# Altium schematic symbol library pporyzala-TI_Lighting.SchLib: 745 symbols (part 16 of 48)
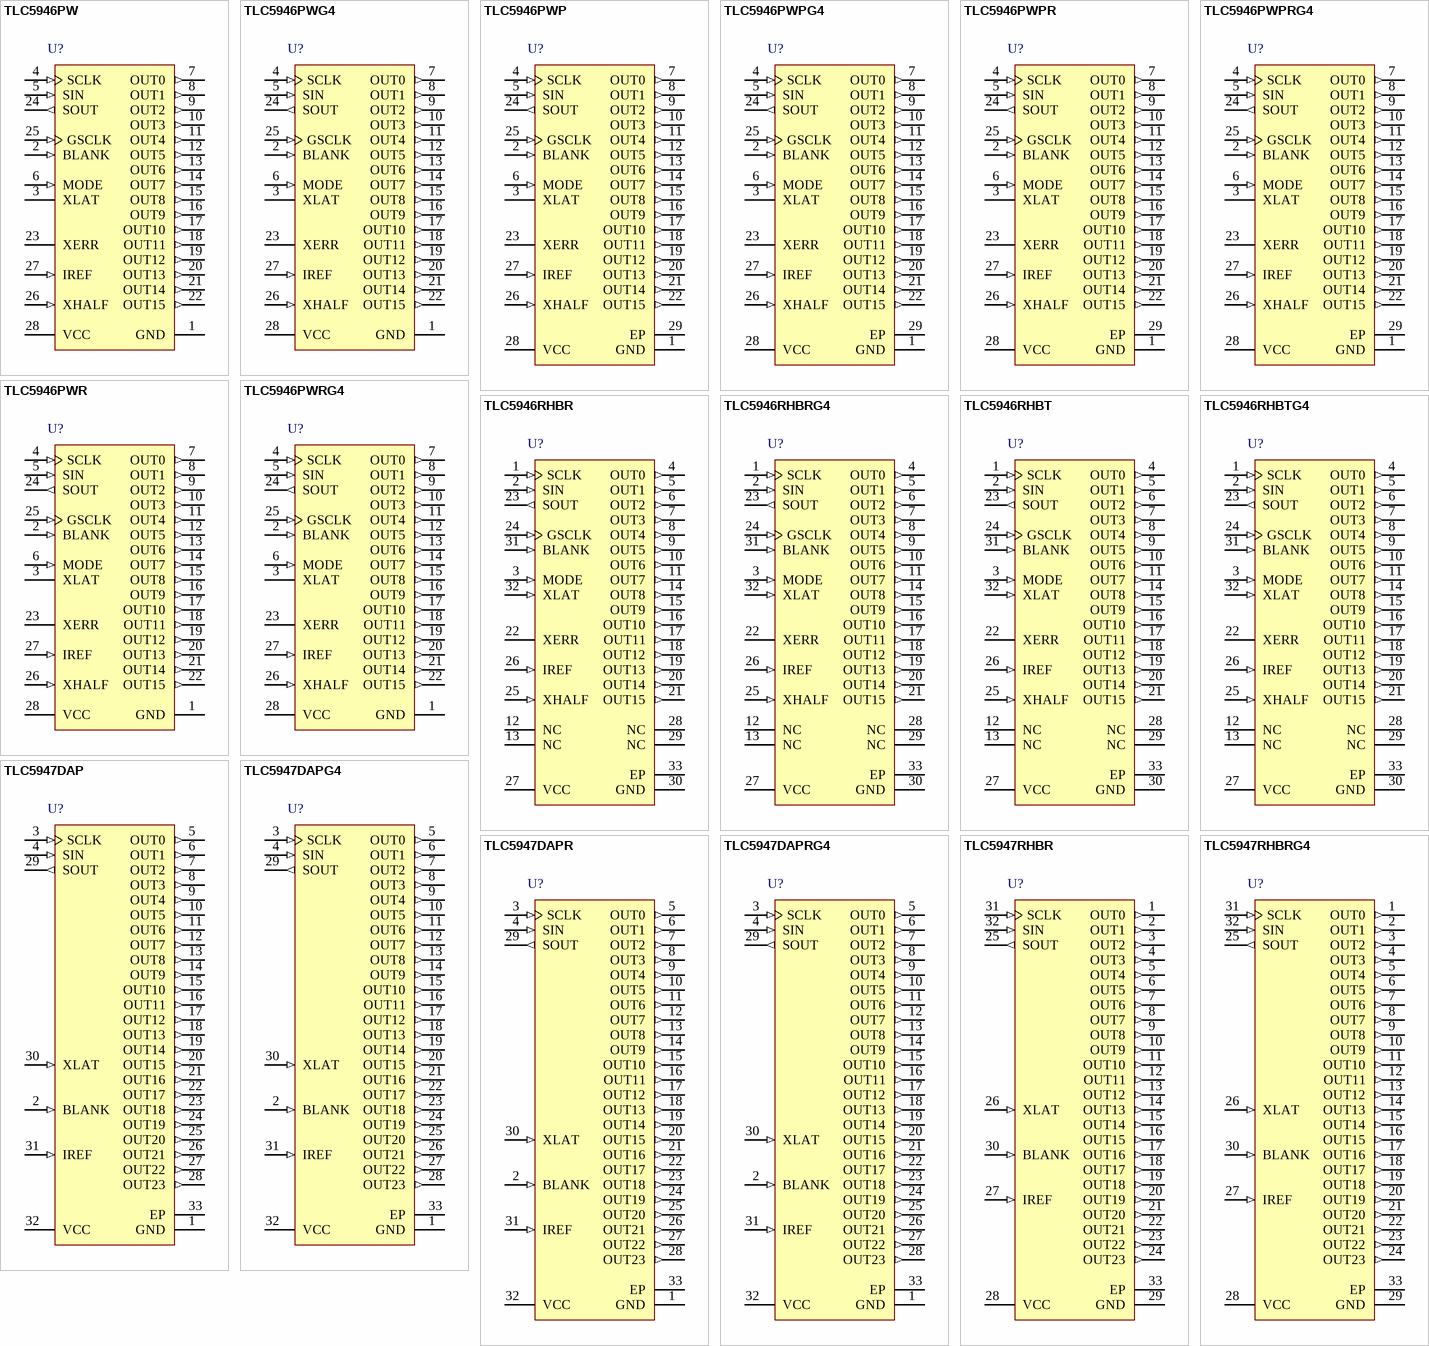
[diagram p46: symbols TLC5946PW to TLC5947RHBRG4]

## TLC5946RHBT
designator U?
16-Channel, 12-Bit PWM LED Driver with 6-Bit DOT Correction, 3 to 5.5 V, -40 to 85 degC, 32-pin QFN (RHB32), Green (RoHS & no Sb/Br); Manufacturer: Texas Instruments; PartNumber: TLC5946RHBT; Iout(Max)(A): 0.04; Rating: Catalog; Vin(Max)(V): 5.5; Vin(Min)(V): 3; DatasheetVersion: SLVS824B; PackageVersion: 4204326/D; PackageReference: RHB32-3450X3450TP; PackageDescription: 32-Pin Plastic Flat Pack, Body 5 x 5 mm, Pitch 0.5 mm; Supplier 1: Digi-Key; Supplier Part Number 1: TLC5946RHBT-ND; Supplier 2: Farnell; Supplier Part Number 2: 1647819; Supplier 3: Farnell; Supplier Part Number 3: 1647819RL; Supplier 4: Newark; Supplier Part Number 4: 14N8520; Supplier 5: Mouser; Supplier Part Number 5: 595-TLC5946RHBT; Eco-Plan: Green (RoHS & no Sb/Br); SubFamily: LED Driver; Mounting Technology: Surface Mount; Code_JEDEC: MO-220; ComponentLink1Description: Manufacturer URL; ComponentLink1URL: http://www.ti.com/; ComponentLink2Description: Datasheet; ComponentLink2URL: http://www.ti.com/general/docs/lit/getliterature.tsp?genericPartNumber=TLC5946&fileType=pdf; ComponentLink3Description: Package Specification; ComponentLink3URL: http://www.ti.com/lit/ml/mpqf130c/mpqf130c.pdf
footprint TI-RHB32-3450X3450TP_V (QFN, 32-Leads, Body 5x5mm, Pitch 0.5mm, Thermal Pad 3.45x3.45mm)
pins: 1 SCLK (in) "Serial data shift clock", 2 SIN (in) "Serial data input", 3 MODE (in) "Input mode pin. When MODE is high, the input mode is dot correction (DC). When MODE is low, the input mode is grayscale (GS).", 4 OUT0 (out) "Constant current output", 5 OUT1 (out) "Constant current output", 6 OUT2 (out) "Constant current output", 7 OUT3 (out) "Constant current output", 8 OUT4 (out) "Constant current output", 9 OUT5 (out) "Constant current output", 10 OUT6 (out) "Constant current output", 11 OUT7 (out) "Constant current output", 12 NC "No connection", 13 NC "No connection", 14 OUT8 (out) "Constant current output", 15 OUT9 (out) "Constant current output", 16 OUT10 (out) "Constant current output", 17 OUT11 (out) "Constant current output", 18 OUT12 (out) "Constant current output", 19 OUT13 (out) "Constant current output", 20 OUT14 (out) "Constant current output", 21 OUT15 (out) "Constant current output", 22 XERR (hiz) "Error output. Open-drain output. XERR goes low when LOD or TEF is detected.", 23 SOUT (out) "Serial data output", 24 GSCLK (in) "Reference clock for Grayscale PWM control.", 25 XHALF (in) "Extended serial interface. When XHALF is high, the device operates normally. When XHALF is low, the extended serial interface is activated.", 26 IREF (in) "This pin sets the constant current value. OUT0 through OUT15 sink constant current is set to desired value by connecting an external resistor between IREF and GND.", 27 VCC (power) "Power-supply voltage", 28 NC "No connection", 29 NC "No connection", 30 GND (power) "Ground", 31 BLANK (in) "Blank (all constant current outputs off). When BLANK is high, all constant current outputs (OUT0 through OUT15) are forced off, the Grayscale PWM timing controller initializes and the Grayscale counter resets to '0'. When (See Datasheet)", 32 XLAT (in) "Edge triggered latch signal. At the rising edge of XLAT, the TLC5946 writes data from the input shift register to either the Dot Correction register (MODE = high) or the Grayscale register (MODE = low).", 33 EP

## TLC5946RHBTG4
designator U?
16-Channel, 12-Bit PWM LED Driver with 6-Bit DOT Correction, 3 to 5.5 V, -40 to 85 degC, 32-pin QFN (RHB32), Green (RoHS & no Sb/Br); Manufacturer: Texas Instruments; PartNumber: TLC5946RHBTG4; Iout(Max)(A): 0.04; Rating: Catalog; Vin(Max)(V): 5.5; Vin(Min)(V): 3; DatasheetVersion: SLVS824B; PackageVersion: 4204326/D; PackageReference: RHB32-3450X3450TP; PackageDescription: 32-Pin Plastic Flat Pack, Body 5 x 5 mm, Pitch 0.5 mm; Supplier 1: Digi-Key; Supplier Part Number 1: TLC5946RHBTG4-ND; Supplier 2: Newark; Supplier Part Number 2: 34P6419; Supplier 3: Mouser; Supplier Part Number 3: 595-TLC5946RHBTG4; Eco-Plan: Green (RoHS & no Sb/Br); SubFamily: LED Driver; Mounting Technology: Surface Mount; Code_JEDEC: MO-220; ComponentLink1Description: Manufacturer URL; ComponentLink1URL: http://www.ti.com/; ComponentLink2Description: Datasheet; ComponentLink2URL: http://www.ti.com/general/docs/lit/getliterature.tsp?genericPartNumber=TLC5946&fileType=pdf; ComponentLink3Description: Package Specification; ComponentLink3URL: http://www.ti.com/lit/ml/mpqf130c/mpqf130c.pdf
footprint TI-RHB32-3450X3450TP_V (QFN, 32-Leads, Body 5x5mm, Pitch 0.5mm, Thermal Pad 3.45x3.45mm)
pins: 1 SCLK (in) "Serial data shift clock", 2 SIN (in) "Serial data input", 3 MODE (in) "Input mode pin. When MODE is high, the input mode is dot correction (DC). When MODE is low, the input mode is grayscale (GS).", 4 OUT0 (out) "Constant current output", 5 OUT1 (out) "Constant current output", 6 OUT2 (out) "Constant current output", 7 OUT3 (out) "Constant current output", 8 OUT4 (out) "Constant current output", 9 OUT5 (out) "Constant current output", 10 OUT6 (out) "Constant current output", 11 OUT7 (out) "Constant current output", 12 NC "No connection", 13 NC "No connection", 14 OUT8 (out) "Constant current output", 15 OUT9 (out) "Constant current output", 16 OUT10 (out) "Constant current output", 17 OUT11 (out) "Constant current output", 18 OUT12 (out) "Constant current output", 19 OUT13 (out) "Constant current output", 20 OUT14 (out) "Constant current output", 21 OUT15 (out) "Constant current output", 22 XERR (hiz) "Error output. Open-drain output. XERR goes low when LOD or TEF is detected.", 23 SOUT (out) "Serial data output", 24 GSCLK (in) "Reference clock for Grayscale PWM control.", 25 XHALF (in) "Extended serial interface. When XHALF is high, the device operates normally. When XHALF is low, the extended serial interface is activated.", 26 IREF (in) "This pin sets the constant current value. OUT0 through OUT15 sink constant current is set to desired value by connecting an external resistor between IREF and GND.", 27 VCC (power) "Power-supply voltage", 28 NC "No connection", 29 NC "No connection", 30 GND (power) "Ground", 31 BLANK (in) "Blank (all constant current outputs off). When BLANK is high, all constant current outputs (OUT0 through OUT15) are forced off, the Grayscale PWM timing controller initializes and the Grayscale counter resets to '0'. When (See Datasheet)", 32 XLAT (in) "Edge triggered latch signal. At the rising edge of XLAT, the TLC5946 writes data from the input shift register to either the Dot Correction register (MODE = high) or the Grayscale register (MODE = low).", 33 EP

## TLC5947DAP
designator U?
24-Channel, 12-Bit PWM LED Driver with Internal Oscillator, 3 to 5.5 V, -40 to 85 degC, 32-pin SOP (DAP32), Green (RoHS & no Sb/Br); Manufacturer: Texas Instruments; PartNumber: TLC5947DAP; Rating: Catalog; Vin(Max)(V): 5.5; Vin(Min)(V): 3; DatasheetVersion: SBVS114A; PackageVersion: 4073257-4/E; PackageReference: DAP32-3810X3710TP; PackageDescription: 32-pin Plastic Small Outline, Body 11 x 6.1 mm, Pitch 0.65 mm; Supplier 1: Digi-Key; Supplier Part Number 1: 296-23576-5-ND; Supplier 2: Farnell; Supplier Part Number 2: 1755259; Supplier 3: Newark; Supplier Part Number 3: 03P5011; Supplier 4: Mouser; Supplier Part Number 4: 595-TLC5947DAP; Eco-Plan: Green (RoHS & no Sb/Br); SubFamily: LED Driver; Mounting Technology: Surface Mount; Code_JEDEC: MO-153; ComponentLink1Description: Manufacturer URL; ComponentLink1URL: http://www.ti.com/; ComponentLink2Description: Datasheet; ComponentLink2URL: http://www.ti.com/general/docs/lit/getliterature.tsp?genericPartNumber=TLC5947&fileType=pdf; ComponentLink3Description: Package Specification; ComponentLink3URL: http://www.ti.com/litv/pdf/mpds380
footprint TI-DAP32-3810X3710TP_N (SOIC, 32-Leads, Body 11x6.1mm, Pitch 0.65mm, Thermal Pad 3.71 x3.81mm, IPC Medium Density)
footprint TI-DAP32-3810X3710TP_L (SOIC, 32-Leads, Body 11x6.1mm, Pitch 0.65mm, Thermal Pad 3.71 x3.81mm, IPC High Density)
footprint TI-DAP32-3810X3710TP_M (SOIC, 32-Leads, Body 11x6.1mm, Pitch 0.65mm, Thermal Pad 3.71 x3.81mm, IPC Low Density)
pins: 1 GND (power) "Power ground", 2 BLANK (in) "Blank (all constant current outputs off). When BLANK is high, all constant current outputs (OUT0 through OUT23) are forced off, the grayscale PWM timing controller initializes, and the grayscale counter resets to '0'. When (See Datasheet)", 3 SCLK (in) "Serial data shift clock. Schmitt buffer input. Data present on the SIN pin are shifted into the shift register with the rising edge of the SCLK pin. Data are shifted to the MSB side by 1-bit synchronizing of the rising edge (See Datasheet)", 4 SIN (in) "Serial input for grayscale data", 5 OUT0 (out) "Constant current output", 6 OUT1 (out) "Constant current output", 7 OUT2 (out) "Constant current output", 8 OUT3 (out) "Constant current output", 9 OUT4 (out) "Constant current output", 10 OUT5 (out) "Constant current output", 11 OUT6 (out) "Constant current output", 12 OUT7 (out) "Constant current output", 13 OUT8 (out) "Constant current output", 14 OUT9 (out) "Constant current output", 15 OUT10 (out) "Constant current output", 16 OUT11 (out) "Constant current output", 17 OUT12 (out) "Constant current output", 18 OUT13 (out) "Constant current output", 19 OUT14 (out) "Constant current output", 20 OUT15 (out) "Constant current output", 21 OUT16 (out) "Constant current output", 22 OUT17 (out) "Constant current output", 23 OUT18 (out) "Constant current output", 24 OUT19 (out) "Constant current output", 25 OUT20 (out) "Constant current output", 26 OUT21 (out) "Constant current output", 27 OUT22 (out) "Constant current output", 28 OUT23 (out) "Constant current output", 29 SOUT (out) "Serial data output. This output is connected to the shift register placed after the MSB of the grayscale shift register. Therefore, the MSB data of the grayscale shift register appears at the falling edge of SCLK. This (See Datasheet)", 30 XLAT (in) "The data in the grayscale shift register are moved to the grayscale data latch with a low-to-high transition on this pin. When the XLAT rising edge is input, all constant current outputs are forced off until the next (See Datasheet)", 31 IREF (in) "This pin sets the constant current value. OUT0 through OUT23 constant sink current is set to the desired value by connecting an external resistor between IREF and GND.", 32 VCC (power) "Power-supply voltage", 33 EP (power) "Thermal Pad"

## TLC5947DAPG4
designator U?
24-Channel, 12-Bit PWM LED Driver with Internal Oscillator, 3 to 5.5 V, -40 to 85 degC, 32-pin SOP (DAP32), Green (RoHS & no Sb/Br); Manufacturer: Texas Instruments; PartNumber: TLC5947DAPG4; Rating: Catalog; Vin(Max)(V): 5.5; Vin(Min)(V): 3; DatasheetVersion: SBVS114A; PackageVersion: 4073257-4/E; PackageReference: DAP32-3810X3710TP; PackageDescription: 32-pin Plastic Small Outline, Body 11 x 6.1 mm, Pitch 0.65 mm; Supplier 1: Digi-Key; Supplier Part Number 1: TLC5947DAPG4-ND; Supplier 2: Newark; Supplier Part Number 2: 34P6420; Supplier 3: Mouser; Supplier Part Number 3: 595-TLC5947DAPG4; Eco-Plan: Green (RoHS & no Sb/Br); SubFamily: LED Driver; Mounting Technology: Surface Mount; Code_JEDEC: MO-153; ComponentLink1Description: Manufacturer URL; ComponentLink1URL: http://www.ti.com/; ComponentLink2Description: Datasheet; ComponentLink2URL: http://www.ti.com/general/docs/lit/getliterature.tsp?genericPartNumber=TLC5947&fileType=pdf; ComponentLink3Description: Package Specification; ComponentLink3URL: http://www.ti.com/litv/pdf/mpds380
footprint TI-DAP32-3810X3710TP_N (SOIC, 32-Leads, Body 11x6.1mm, Pitch 0.65mm, Thermal Pad 3.71 x3.81mm, IPC Medium Density)
footprint TI-DAP32-3810X3710TP_L (SOIC, 32-Leads, Body 11x6.1mm, Pitch 0.65mm, Thermal Pad 3.71 x3.81mm, IPC High Density)
footprint TI-DAP32-3810X3710TP_M (SOIC, 32-Leads, Body 11x6.1mm, Pitch 0.65mm, Thermal Pad 3.71 x3.81mm, IPC Low Density)
pins: 1 GND (power) "Power ground", 2 BLANK (in) "Blank (all constant current outputs off). When BLANK is high, all constant current outputs (OUT0 through OUT23) are forced off, the grayscale PWM timing controller initializes, and the grayscale counter resets to '0'. When (See Datasheet)", 3 SCLK (in) "Serial data shift clock. Schmitt buffer input. Data present on the SIN pin are shifted into the shift register with the rising edge of the SCLK pin. Data are shifted to the MSB side by 1-bit synchronizing of the rising edge (See Datasheet)", 4 SIN (in) "Serial input for grayscale data", 5 OUT0 (out) "Constant current output", 6 OUT1 (out) "Constant current output", 7 OUT2 (out) "Constant current output", 8 OUT3 (out) "Constant current output", 9 OUT4 (out) "Constant current output", 10 OUT5 (out) "Constant current output", 11 OUT6 (out) "Constant current output", 12 OUT7 (out) "Constant current output", 13 OUT8 (out) "Constant current output", 14 OUT9 (out) "Constant current output", 15 OUT10 (out) "Constant current output", 16 OUT11 (out) "Constant current output", 17 OUT12 (out) "Constant current output", 18 OUT13 (out) "Constant current output", 19 OUT14 (out) "Constant current output", 20 OUT15 (out) "Constant current output", 21 OUT16 (out) "Constant current output", 22 OUT17 (out) "Constant current output", 23 OUT18 (out) "Constant current output", 24 OUT19 (out) "Constant current output", 25 OUT20 (out) "Constant current output", 26 OUT21 (out) "Constant current output", 27 OUT22 (out) "Constant current output", 28 OUT23 (out) "Constant current output", 29 SOUT (out) "Serial data output. This output is connected to the shift register placed after the MSB of the grayscale shift register. Therefore, the MSB data of the grayscale shift register appears at the falling edge of SCLK. This (See Datasheet)", 30 XLAT (in) "The data in the grayscale shift register are moved to the grayscale data latch with a low-to-high transition on this pin. When the XLAT rising edge is input, all constant current outputs are forced off until the next (See Datasheet)", 31 IREF (in) "This pin sets the constant current value. OUT0 through OUT23 constant sink current is set to the desired value by connecting an external resistor between IREF and GND.", 32 VCC (power) "Power-supply voltage", 33 EP (power) "Thermal Pad"

## TLC5947DAPR
designator U?
24-Channel, 12-Bit PWM LED Driver with Internal Oscillator, 3 to 5.5 V, -40 to 85 degC, 32-pin SOP (DAP32), Green (RoHS & no Sb/Br); Manufacturer: Texas Instruments; PartNumber: TLC5947DAPR; Rating: Catalog; Vin(Max)(V): 5.5; Vin(Min)(V): 3; DatasheetVersion: SBVS114A; PackageVersion: 4073257-4/E; PackageReference: DAP32-3810X3710TP; PackageDescription: 32-pin Plastic Small Outline, Body 11 x 6.1 mm, Pitch 0.65 mm; Supplier 1: Digi-Key; Supplier Part Number 1: TLC5947DAPR-ND; Supplier 2: Newark; Supplier Part Number 2: 03P5012; Supplier 3: Mouser; Supplier Part Number 3: 595-TLC5947DAPR; Eco-Plan: Green (RoHS & no Sb/Br); SubFamily: LED Driver; Mounting Technology: Surface Mount; Code_JEDEC: MO-153; ComponentLink1Description: Manufacturer URL; ComponentLink1URL: http://www.ti.com/; ComponentLink2Description: Datasheet; ComponentLink2URL: http://www.ti.com/general/docs/lit/getliterature.tsp?genericPartNumber=TLC5947&fileType=pdf; ComponentLink3Description: Package Specification; ComponentLink3URL: http://www.ti.com/litv/pdf/mpds380
footprint TI-DAP32-3810X3710TP_N (SOIC, 32-Leads, Body 11x6.1mm, Pitch 0.65mm, Thermal Pad 3.71 x3.81mm, IPC Medium Density)
footprint TI-DAP32-3810X3710TP_L (SOIC, 32-Leads, Body 11x6.1mm, Pitch 0.65mm, Thermal Pad 3.71 x3.81mm, IPC High Density)
footprint TI-DAP32-3810X3710TP_M (SOIC, 32-Leads, Body 11x6.1mm, Pitch 0.65mm, Thermal Pad 3.71 x3.81mm, IPC Low Density)
pins: 1 GND (power) "Power ground", 2 BLANK (in) "Blank (all constant current outputs off). When BLANK is high, all constant current outputs (OUT0 through OUT23) are forced off, the grayscale PWM timing controller initializes, and the grayscale counter resets to '0'. When (See Datasheet)", 3 SCLK (in) "Serial data shift clock. Schmitt buffer input. Data present on the SIN pin are shifted into the shift register with the rising edge of the SCLK pin. Data are shifted to the MSB side by 1-bit synchronizing of the rising edge (See Datasheet)", 4 SIN (in) "Serial input for grayscale data", 5 OUT0 (out) "Constant current output", 6 OUT1 (out) "Constant current output", 7 OUT2 (out) "Constant current output", 8 OUT3 (out) "Constant current output", 9 OUT4 (out) "Constant current output", 10 OUT5 (out) "Constant current output", 11 OUT6 (out) "Constant current output", 12 OUT7 (out) "Constant current output", 13 OUT8 (out) "Constant current output", 14 OUT9 (out) "Constant current output", 15 OUT10 (out) "Constant current output", 16 OUT11 (out) "Constant current output", 17 OUT12 (out) "Constant current output", 18 OUT13 (out) "Constant current output", 19 OUT14 (out) "Constant current output", 20 OUT15 (out) "Constant current output", 21 OUT16 (out) "Constant current output", 22 OUT17 (out) "Constant current output", 23 OUT18 (out) "Constant current output", 24 OUT19 (out) "Constant current output", 25 OUT20 (out) "Constant current output", 26 OUT21 (out) "Constant current output", 27 OUT22 (out) "Constant current output", 28 OUT23 (out) "Constant current output", 29 SOUT (out) "Serial data output. This output is connected to the shift register placed after the MSB of the grayscale shift register. Therefore, the MSB data of the grayscale shift register appears at the falling edge of SCLK. This (See Datasheet)", 30 XLAT (in) "The data in the grayscale shift register are moved to the grayscale data latch with a low-to-high transition on this pin. When the XLAT rising edge is input, all constant current outputs are forced off until the next (See Datasheet)", 31 IREF (in) "This pin sets the constant current value. OUT0 through OUT23 constant sink current is set to the desired value by connecting an external resistor between IREF and GND.", 32 VCC (power) "Power-supply voltage", 33 EP (power) "Thermal Pad"

## TLC5947DAPRG4
designator U?
24-Channel, 12-Bit PWM LED Driver with Internal Oscillator, 3 to 5.5 V, -40 to 85 degC, 32-pin SOP (DAP32), Green (RoHS & no Sb/Br); Manufacturer: Texas Instruments; PartNumber: TLC5947DAPRG4; Rating: Catalog; Vin(Max)(V): 5.5; Vin(Min)(V): 3; DatasheetVersion: SBVS114A; PackageVersion: 4073257-4/E; PackageReference: DAP32-3810X3710TP; PackageDescription: 32-pin Plastic Small Outline, Body 11 x 6.1 mm, Pitch 0.65 mm; Supplier 1: Digi-Key; Supplier Part Number 1: TLC5947DAPRG4-ND; Supplier 2: Mouser; Supplier Part Number 2: 595-TLC5947DAPRG4; Eco-Plan: Green (RoHS & no Sb/Br); SubFamily: LED Driver; Mounting Technology: Surface Mount; Code_JEDEC: MO-153; ComponentLink1Description: Manufacturer URL; ComponentLink1URL: http://www.ti.com/; ComponentLink2Description: Datasheet; ComponentLink2URL: http://www.ti.com/general/docs/lit/getliterature.tsp?genericPartNumber=TLC5947&fileType=pdf; ComponentLink3Description: Package Specification; ComponentLink3URL: http://www.ti.com/litv/pdf/mpds380
footprint TI-DAP32-3810X3710TP_N (SOIC, 32-Leads, Body 11x6.1mm, Pitch 0.65mm, Thermal Pad 3.71 x3.81mm, IPC Medium Density)
footprint TI-DAP32-3810X3710TP_L (SOIC, 32-Leads, Body 11x6.1mm, Pitch 0.65mm, Thermal Pad 3.71 x3.81mm, IPC High Density)
footprint TI-DAP32-3810X3710TP_M (SOIC, 32-Leads, Body 11x6.1mm, Pitch 0.65mm, Thermal Pad 3.71 x3.81mm, IPC Low Density)
pins: 1 GND (power) "Power ground", 2 BLANK (in) "Blank (all constant current outputs off). When BLANK is high, all constant current outputs (OUT0 through OUT23) are forced off, the grayscale PWM timing controller initializes, and the grayscale counter resets to '0'. When (See Datasheet)", 3 SCLK (in) "Serial data shift clock. Schmitt buffer input. Data present on the SIN pin are shifted into the shift register with the rising edge of the SCLK pin. Data are shifted to the MSB side by 1-bit synchronizing of the rising edge (See Datasheet)", 4 SIN (in) "Serial input for grayscale data", 5 OUT0 (out) "Constant current output", 6 OUT1 (out) "Constant current output", 7 OUT2 (out) "Constant current output", 8 OUT3 (out) "Constant current output", 9 OUT4 (out) "Constant current output", 10 OUT5 (out) "Constant current output", 11 OUT6 (out) "Constant current output", 12 OUT7 (out) "Constant current output", 13 OUT8 (out) "Constant current output", 14 OUT9 (out) "Constant current output", 15 OUT10 (out) "Constant current output", 16 OUT11 (out) "Constant current output", 17 OUT12 (out) "Constant current output", 18 OUT13 (out) "Constant current output", 19 OUT14 (out) "Constant current output", 20 OUT15 (out) "Constant current output", 21 OUT16 (out) "Constant current output", 22 OUT17 (out) "Constant current output", 23 OUT18 (out) "Constant current output", 24 OUT19 (out) "Constant current output", 25 OUT20 (out) "Constant current output", 26 OUT21 (out) "Constant current output", 27 OUT22 (out) "Constant current output", 28 OUT23 (out) "Constant current output", 29 SOUT (out) "Serial data output. This output is connected to the shift register placed after the MSB of the grayscale shift register. Therefore, the MSB data of the grayscale shift register appears at the falling edge of SCLK. This (See Datasheet)", 30 XLAT (in) "The data in the grayscale shift register are moved to the grayscale data latch with a low-to-high transition on this pin. When the XLAT rising edge is input, all constant current outputs are forced off until the next (See Datasheet)", 31 IREF (in) "This pin sets the constant current value. OUT0 through OUT23 constant sink current is set to the desired value by connecting an external resistor between IREF and GND.", 32 VCC (power) "Power-supply voltage", 33 EP (power) "Thermal Pad"

## TLC5947RHBR
designator U?
24-Channel, 12-Bit PWM LED Driver with Internal Oscillator, 3 to 5.5 V, -40 to 85 degC, 32-pin QFN (RHB32), Green (RoHS & no Sb/Br); Manufacturer: Texas Instruments; PartNumber: TLC5947RHBR; Rating: Catalog; Vin(Max)(V): 5.5; Vin(Min)(V): 3; DatasheetVersion: SBVS114A; PackageVersion: 4204326/D; PackageReference: RHB32-3450X3450TP; PackageDescription: 32-Pin Plastic Flat Pack, Body 5 x 5 mm, Pitch 0.5 mm; Supplier 1: Digi-Key; Supplier Part Number 1: TLC5947RHBR-ND; Supplier 2: Mouser; Supplier Part Number 2: 595-TLC5947RHBR; Eco-Plan: Green (RoHS & no Sb/Br); SubFamily: LED Driver; Mounting Technology: Surface Mount; Code_JEDEC: MO-220; ComponentLink1Description: Manufacturer URL; ComponentLink1URL: http://www.ti.com/; ComponentLink2Description: Datasheet; ComponentLink2URL: http://www.ti.com/general/docs/lit/getliterature.tsp?genericPartNumber=TLC5947&fileType=pdf; ComponentLink3Description: Package Specification; ComponentLink3URL: http://www.ti.com/lit/ml/mpqf130c/mpqf130c.pdf
footprint TI-RHB32-3450X3450TP_V (QFN, 32-Leads, Body 5x5mm, Pitch 0.5mm, Thermal Pad 3.45x3.45mm)
pins: 1 OUT0 (out) "Constant current output", 2 OUT1 (out) "Constant current output", 3 OUT2 (out) "Constant current output", 4 OUT3 (out) "Constant current output", 5 OUT4 (out) "Constant current output", 6 OUT5 (out) "Constant current output", 7 OUT6 (out) "Constant current output", 8 OUT7 (out) "Constant current output", 9 OUT8 (out) "Constant current output", 10 OUT9 (out) "Constant current output", 11 OUT10 (out) "Constant current output", 12 OUT11 (out) "Constant current output", 13 OUT12 (out) "Constant current output", 14 OUT13 (out) "Constant current output", 15 OUT14 (out) "Constant current output", 16 OUT15 (out) "Constant current output", 17 OUT16 (out) "Constant current output", 18 OUT17 (out) "Constant current output", 19 OUT18 (out) "Constant current output", 20 OUT19 (out) "Constant current output", 21 OUT20 (out) "Constant current output", 22 OUT21 (out) "Constant current output", 23 OUT22 (out) "Constant current output", 24 OUT23 (out) "Constant current output", 25 SOUT (out) "Serial data output. This output is connected to the shift register placed after the MSB of the grayscale shift register. Therefore, the MSB data of the grayscale shift register appears at the falling edge of SCLK. This (See Datasheet)", 26 XLAT (in) "The data in the grayscale shift register are moved to the grayscale data latch with a low-to-high transition on this pin. When the XLAT rising edge is input, all constant current outputs are forced off until the next (See Datasheet)", 27 IREF (in) "This pin sets the constant current value. OUT0 through OUT23 constant sink current is set to the desired value by connecting an external resistor between IREF and GND.", 28 VCC (power) "Power-supply voltage", 29 GND (power) "Power ground", 30 BLANK (in) "Blank (all constant current outputs off). When BLANK is high, all constant current outputs (OUT0 through OUT23) are forced off, the grayscale PWM timing controller initializes, and the grayscale counter resets to '0'. When (See Datasheet)", 31 SCLK (in) "Serial data shift clock. Schmitt buffer input. Data present on the SIN pin are shifted into the shift register with the rising edge of the SCLK pin. Data are shifted to the MSB side by 1-bit synchronizing of the rising edge (See Datasheet)", 32 SIN (in) "Serial input for grayscale data", 33 EP "Thermal Pad"

## TLC5947RHBRG4
designator U?
24-Channel, 12-Bit PWM LED Driver with Internal Oscillator, 3 to 5.5 V, -40 to 85 degC, 32-pin QFN (RHB32), Green (RoHS & no Sb/Br); Manufacturer: Texas Instruments; PartNumber: TLC5947RHBRG4; Rating: Catalog; Vin(Max)(V): 5.5; Vin(Min)(V): 3; DatasheetVersion: SBVS114A; PackageVersion: 4204326/D; PackageReference: RHB32-3450X3450TP; PackageDescription: 32-Pin Plastic Flat Pack, Body 5 x 5 mm, Pitch 0.5 mm; Supplier 1: Digi-Key; Supplier Part Number 1: TLC5947RHBRG4-ND; Supplier 2: Mouser; Supplier Part Number 2: 595-TLC5947RHBRG4; Eco-Plan: Green (RoHS & no Sb/Br); SubFamily: LED Driver; Mounting Technology: Surface Mount; Code_JEDEC: MO-220; ComponentLink1Description: Manufacturer URL; ComponentLink1URL: http://www.ti.com/; ComponentLink2Description: Datasheet; ComponentLink2URL: http://www.ti.com/general/docs/lit/getliterature.tsp?genericPartNumber=TLC5947&fileType=pdf; ComponentLink3Description: Package Specification; ComponentLink3URL: http://www.ti.com/lit/ml/mpqf130c/mpqf130c.pdf
footprint TI-RHB32-3450X3450TP_V (QFN, 32-Leads, Body 5x5mm, Pitch 0.5mm, Thermal Pad 3.45x3.45mm)
pins: 1 OUT0 (out) "Constant current output", 2 OUT1 (out) "Constant current output", 3 OUT2 (out) "Constant current output", 4 OUT3 (out) "Constant current output", 5 OUT4 (out) "Constant current output", 6 OUT5 (out) "Constant current output", 7 OUT6 (out) "Constant current output", 8 OUT7 (out) "Constant current output", 9 OUT8 (out) "Constant current output", 10 OUT9 (out) "Constant current output", 11 OUT10 (out) "Constant current output", 12 OUT11 (out) "Constant current output", 13 OUT12 (out) "Constant current output", 14 OUT13 (out) "Constant current output", 15 OUT14 (out) "Constant current output", 16 OUT15 (out) "Constant current output", 17 OUT16 (out) "Constant current output", 18 OUT17 (out) "Constant current output", 19 OUT18 (out) "Constant current output", 20 OUT19 (out) "Constant current output", 21 OUT20 (out) "Constant current output", 22 OUT21 (out) "Constant current output", 23 OUT22 (out) "Constant current output", 24 OUT23 (out) "Constant current output", 25 SOUT (out) "Serial data output. This output is connected to the shift register placed after the MSB of the grayscale shift register. Therefore, the MSB data of the grayscale shift register appears at the falling edge of SCLK. This (See Datasheet)", 26 XLAT (in) "The data in the grayscale shift register are moved to the grayscale data latch with a low-to-high transition on this pin. When the XLAT rising edge is input, all constant current outputs are forced off until the next (See Datasheet)", 27 IREF (in) "This pin sets the constant current value. OUT0 through OUT23 constant sink current is set to the desired value by connecting an external resistor between IREF and GND.", 28 VCC (power) "Power-supply voltage", 29 GND (power) "Power ground", 30 BLANK (in) "Blank (all constant current outputs off). When BLANK is high, all constant current outputs (OUT0 through OUT23) are forced off, the grayscale PWM timing controller initializes, and the grayscale counter resets to '0'. When (See Datasheet)", 31 SCLK (in) "Serial data shift clock. Schmitt buffer input. Data present on the SIN pin are shifted into the shift register with the rising edge of the SCLK pin. Data are shifted to the MSB side by 1-bit synchronizing of the rising edge (See Datasheet)", 32 SIN (in) "Serial input for grayscale data", 33 EP "Thermal Pad"

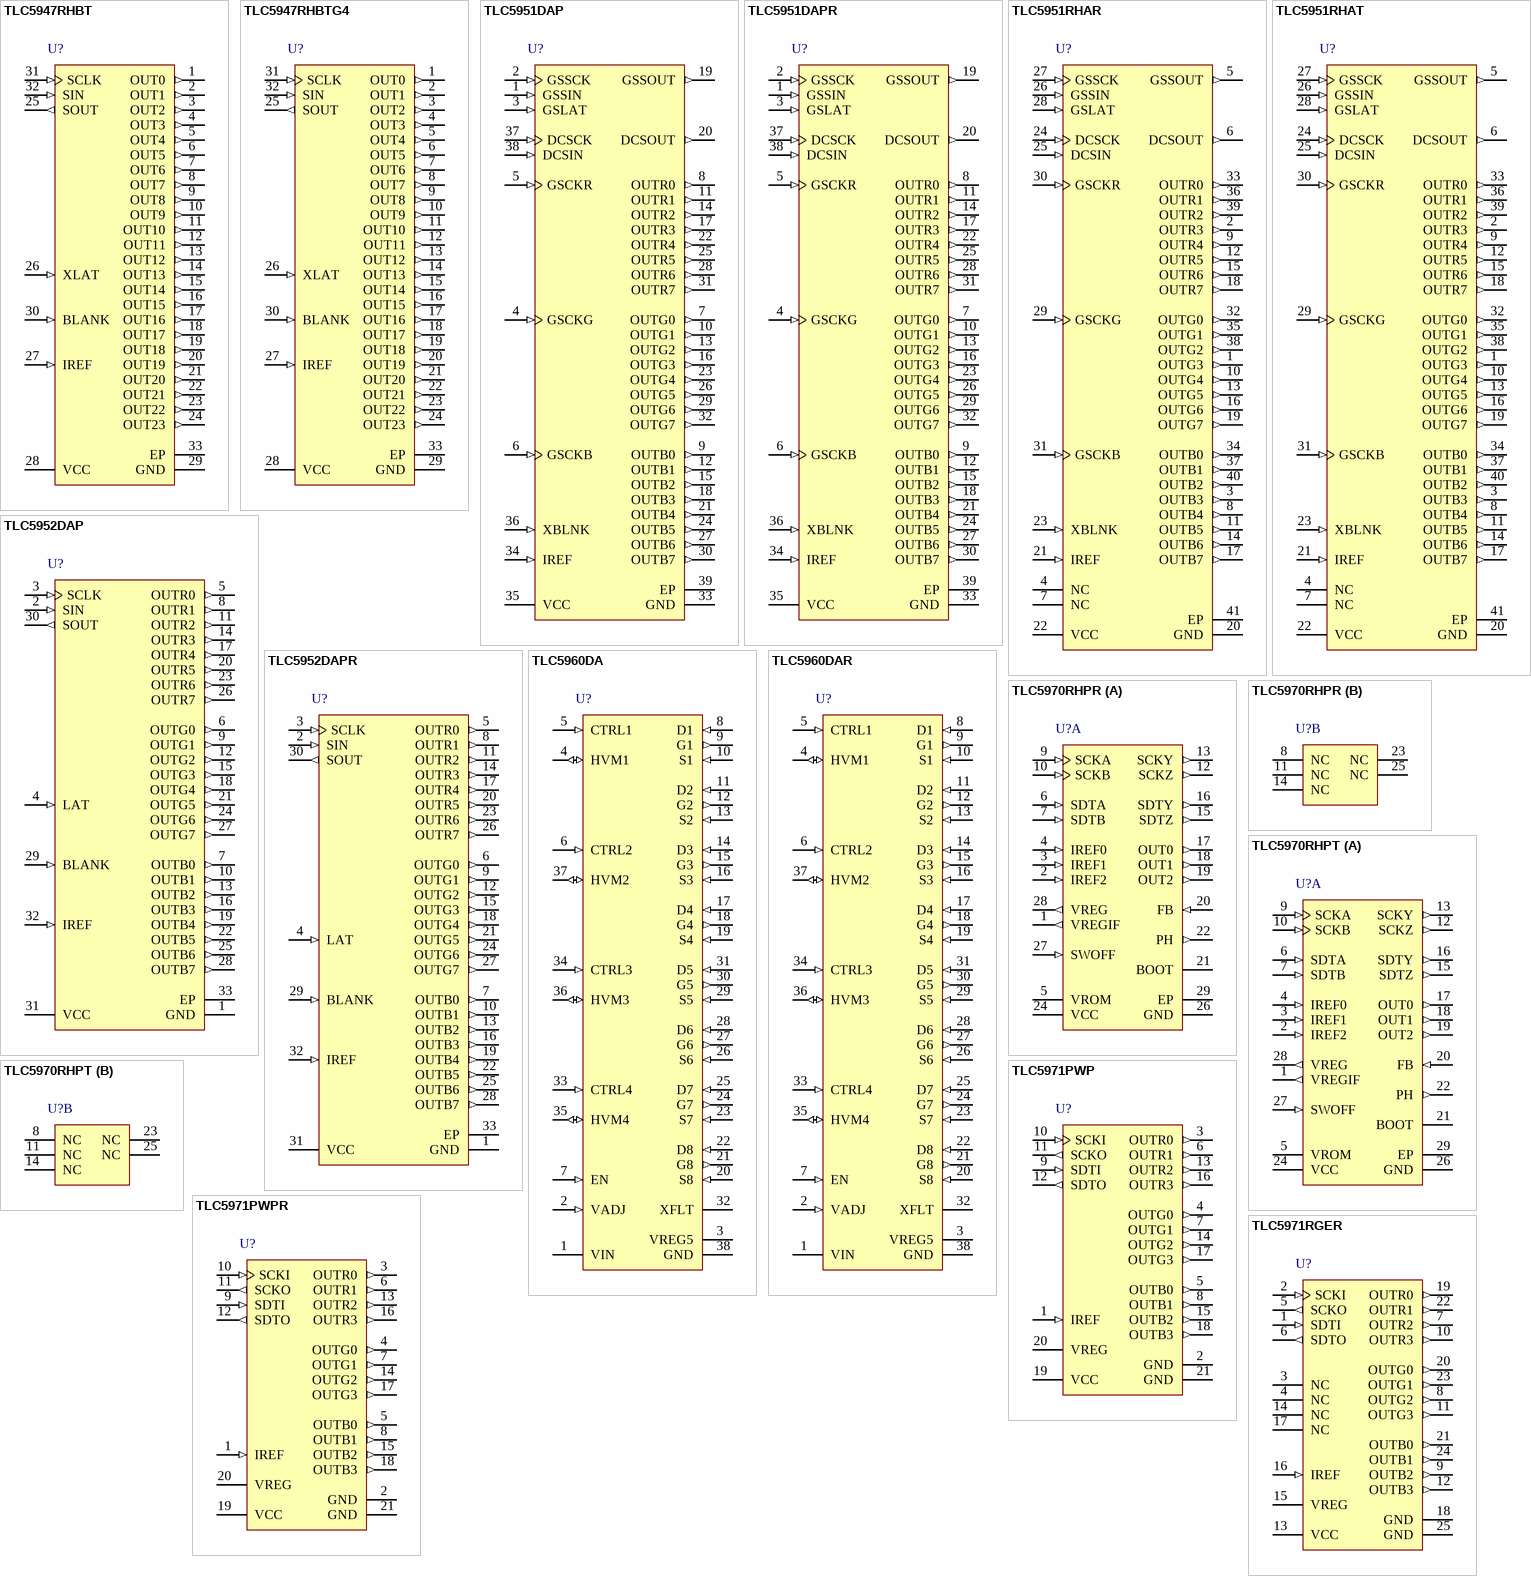
[diagram p12: symbols TLC5947RHBT to TLC5971RGER]

## TLC5947RHBT
designator U?
24-Channel, 12-Bit PWM LED Driver with Internal Oscillator, 3 to 5.5 V, -40 to 85 degC, 32-pin QFN (RHB32), Green (RoHS & no Sb/Br); Manufacturer: Texas Instruments; PartNumber: TLC5947RHBT; Rating: Catalog; Vin(Max)(V): 5.5; Vin(Min)(V): 3; DatasheetVersion: SBVS114A; PackageVersion: 4204326/D; PackageReference: RHB32-3450X3450TP; PackageDescription: 32-Pin Plastic Flat Pack, Body 5 x 5 mm, Pitch 0.5 mm; Supplier 1: Digi-Key; Supplier Part Number 1: 296-23820-2-ND; Supplier 2: Digi-Key; Supplier Part Number 2: 296-23820-1-ND; Supplier 3: Digi-Key; Supplier Part Number 3: 296-23820-6-ND; Supplier 4: Newark; Supplier Part Number 4: 12P7890; Supplier 5: Mouser; Supplier Part Number 5: 595-TLC5947RHBT; Eco-Plan: Green (RoHS & no Sb/Br); SubFamily: LED Driver; Mounting Technology: Surface Mount; Code_JEDEC: MO-220; ComponentLink1Description: Manufacturer URL; ComponentLink1URL: http://www.ti.com/; ComponentLink2Description: Datasheet; ComponentLink2URL: http://www.ti.com/general/docs/lit/getliterature.tsp?genericPartNumber=TLC5947&fileType=pdf; ComponentLink3Description: Package Specification; ComponentLink3URL: http://www.ti.com/lit/ml/mpqf130c/mpqf130c.pdf
footprint TI-RHB32-3450X3450TP_V (QFN, 32-Leads, Body 5x5mm, Pitch 0.5mm, Thermal Pad 3.45x3.45mm)
pins: 1 OUT0 (out) "Constant current output", 2 OUT1 (out) "Constant current output", 3 OUT2 (out) "Constant current output", 4 OUT3 (out) "Constant current output", 5 OUT4 (out) "Constant current output", 6 OUT5 (out) "Constant current output", 7 OUT6 (out) "Constant current output", 8 OUT7 (out) "Constant current output", 9 OUT8 (out) "Constant current output", 10 OUT9 (out) "Constant current output", 11 OUT10 (out) "Constant current output", 12 OUT11 (out) "Constant current output", 13 OUT12 (out) "Constant current output", 14 OUT13 (out) "Constant current output", 15 OUT14 (out) "Constant current output", 16 OUT15 (out) "Constant current output", 17 OUT16 (out) "Constant current output", 18 OUT17 (out) "Constant current output", 19 OUT18 (out) "Constant current output", 20 OUT19 (out) "Constant current output", 21 OUT20 (out) "Constant current output", 22 OUT21 (out) "Constant current output", 23 OUT22 (out) "Constant current output", 24 OUT23 (out) "Constant current output", 25 SOUT (out) "Serial data output. This output is connected to the shift register placed after the MSB of the grayscale shift register. Therefore, the MSB data of the grayscale shift register appears at the falling edge of SCLK. This (See Datasheet)", 26 XLAT (in) "The data in the grayscale shift register are moved to the grayscale data latch with a low-to-high transition on this pin. When the XLAT rising edge is input, all constant current outputs are forced off until the next (See Datasheet)", 27 IREF (in) "This pin sets the constant current value. OUT0 through OUT23 constant sink current is set to the desired value by connecting an external resistor between IREF and GND.", 28 VCC (power) "Power-supply voltage", 29 GND (power) "Power ground", 30 BLANK (in) "Blank (all constant current outputs off). When BLANK is high, all constant current outputs (OUT0 through OUT23) are forced off, the grayscale PWM timing controller initializes, and the grayscale counter resets to '0'. When (See Datasheet)", 31 SCLK (in) "Serial data shift clock. Schmitt buffer input. Data present on the SIN pin are shifted into the shift register with the rising edge of the SCLK pin. Data are shifted to the MSB side by 1-bit synchronizing of the rising edge (See Datasheet)", 32 SIN (in) "Serial input for grayscale data", 33 EP "Thermal Pad"

## TLC5947RHBTG4
designator U?
24-Channel, 12-Bit PWM LED Driver with Internal Oscillator, 3 to 5.5 V, -40 to 85 degC, 32-pin QFN (RHB32), Green (RoHS & no Sb/Br); Manufacturer: Texas Instruments; PartNumber: TLC5947RHBTG4; Rating: Catalog; Vin(Max)(V): 5.5; Vin(Min)(V): 3; DatasheetVersion: SBVS114A; PackageVersion: 4204326/D; PackageReference: RHB32-3450X3450TP; PackageDescription: 32-Pin Plastic Flat Pack, Body 5 x 5 mm, Pitch 0.5 mm; Supplier 1: Digi-Key; Supplier Part Number 1: TLC5947RHBTG4-ND; Supplier 2: Newark; Supplier Part Number 2: 34P6423; Supplier 3: Mouser; Supplier Part Number 3: 595-TLC5947RHBTG4; Eco-Plan: Green (RoHS & no Sb/Br); SubFamily: LED Driver; Mounting Technology: Surface Mount; Code_JEDEC: MO-220; ComponentLink1Description: Manufacturer URL; ComponentLink1URL: http://www.ti.com/; ComponentLink2Description: Datasheet; ComponentLink2URL: http://www.ti.com/general/docs/lit/getliterature.tsp?genericPartNumber=TLC5947&fileType=pdf; ComponentLink3Description: Package Specification; ComponentLink3URL: http://www.ti.com/lit/ml/mpqf130c/mpqf130c.pdf
footprint TI-RHB32-3450X3450TP_V (QFN, 32-Leads, Body 5x5mm, Pitch 0.5mm, Thermal Pad 3.45x3.45mm)
pins: 1 OUT0 (out) "Constant current output", 2 OUT1 (out) "Constant current output", 3 OUT2 (out) "Constant current output", 4 OUT3 (out) "Constant current output", 5 OUT4 (out) "Constant current output", 6 OUT5 (out) "Constant current output", 7 OUT6 (out) "Constant current output", 8 OUT7 (out) "Constant current output", 9 OUT8 (out) "Constant current output", 10 OUT9 (out) "Constant current output", 11 OUT10 (out) "Constant current output", 12 OUT11 (out) "Constant current output", 13 OUT12 (out) "Constant current output", 14 OUT13 (out) "Constant current output", 15 OUT14 (out) "Constant current output", 16 OUT15 (out) "Constant current output", 17 OUT16 (out) "Constant current output", 18 OUT17 (out) "Constant current output", 19 OUT18 (out) "Constant current output", 20 OUT19 (out) "Constant current output", 21 OUT20 (out) "Constant current output", 22 OUT21 (out) "Constant current output", 23 OUT22 (out) "Constant current output", 24 OUT23 (out) "Constant current output", 25 SOUT (out) "Serial data output. This output is connected to the shift register placed after the MSB of the grayscale shift register. Therefore, the MSB data of the grayscale shift register appears at the falling edge of SCLK. This (See Datasheet)", 26 XLAT (in) "The data in the grayscale shift register are moved to the grayscale data latch with a low-to-high transition on this pin. When the XLAT rising edge is input, all constant current outputs are forced off until the next (See Datasheet)", 27 IREF (in) "This pin sets the constant current value. OUT0 through OUT23 constant sink current is set to the desired value by connecting an external resistor between IREF and GND.", 28 VCC (power) "Power-supply voltage", 29 GND (power) "Power ground", 30 BLANK (in) "Blank (all constant current outputs off). When BLANK is high, all constant current outputs (OUT0 through OUT23) are forced off, the grayscale PWM timing controller initializes, and the grayscale counter resets to '0'. When (See Datasheet)", 31 SCLK (in) "Serial data shift clock. Schmitt buffer input. Data present on the SIN pin are shifted into the shift register with the rising edge of the SCLK pin. Data are shifted to the MSB side by 1-bit synchronizing of the rising edge (See Datasheet)", 32 SIN (in) "Serial input for grayscale data", 33 EP "Thermal Pad"

## TLC5951DAP
designator U?
24-Channel, 12-Bit PWM LED Driver with 7-Bit DOT Correction and 3-Group, 8-Bit Global Brightness Control, 3 to 5.5 V, -40 to 85 degC, 38-pin SOP (DAP38), Green (RoHS & no Sb/Br); Manufacturer: Texas Instruments; PartNumber: TLC5951DAP; Rating: Catalog; Vin(Max)(V): 5.5; Vin(Min)(V): 3; DatasheetVersion: SBVS127B; PackageVersion: 4073257-5/E; PackageReference: DAP38-5700X3040TP; PackageDescription: 38-Pin Plastic Small Outline, Body 12.5 x 6.1 mm, Pitch 0.65 mm; Supplier 1: Digi-Key; Supplier Part Number 1: 296-25461-5-ND; Supplier 2: Newark; Supplier Part Number 2: 09R6488; Supplier 3: Mouser; Supplier Part Number 3: 595-TLC5951DAP; Eco-Plan: Green (RoHS & no Sb/Br); SubFamily: LED Driver; Mounting Technology: Surface Mount; Code_JEDEC: MO-153; ComponentLink1Description: Manufacturer URL; ComponentLink1URL: http://www.ti.com/; ComponentLink2Description: Datasheet; ComponentLink2URL: http://www.ti.com/general/docs/lit/getliterature.tsp?genericPartNumber=TLC5951&fileType=pdf; ComponentLink3Description: Package Specification; ComponentLink3URL: http://www.ti.com/litv/pdf/mpdi001b
footprint TI-DAP38-5700X3040TP_N (SOP, 38-Leads, Body 12.5x6.1mm, Pitch 0.65mm, Thermal Pad 5.7x3.04mm, IPC Medium Density)
footprint TI-DAP38-5700X3040TP_L (SOP, 38-Leads, Body 12.5x6.1mm, Pitch 0.65mm, Thermal Pad 5.7x3.04mm, IPC High Density)
footprint TI-DAP38-5700X3040TP_M (SOP, 38-Leads, Body 12.5x6.1mm, Pitch 0.65mm, Thermal Pad 5.7x3.04mm, IPC Low Density)
pins: 1 GSSIN (in) "Serial data input for the 288-bit common shift register for grayscale (GS), dot correction (DC), global brightness control (BC), and function control (FC) data. GSSIN is connected to the LSB of the 288-bit common shift (See Datasheet)", 2 GSSCK (in) "Serial data shift clock for the 288-bit common shift register for GS/DC/BC/FC data. Data present on GSSIN are shifted into the LSB of the shift register with the rising edge of GSSCK. Data in the shift register are shifted (See Datasheet)", 3 GSLAT (in) "Data in the 288-bit common shift register are copied to the GS data latch or to the DC/BC/FC data latch at the rising edge of GSLAT. The level of GSLAT at the last GSSCK before the GSLAT rising edge determines which of the (See Datasheet)", 4 GSCKG (in) "Reference clock for the GS PWM control for the GREEN LED output group. When XBLNK is high, each GSCKR rising edge increments the GREEN LED GS counter for PWM control.", 5 GSCKR (in) "Reference clock for the GS pulse width modulation (PWM) control for the RED LED output group. When XBLNK is high, each GSCKR rising edge increments the RED LED GS counter for PWM control.", 6 GSCKB (in) "Reference clock for the GS PWM control for the BLUE LED output group. When XBLNK is high, each GSCKR rising edge increments the BLUE LED GS counter for PWM control.", 7 OUTG0 (out) "Constant-current outputs for the GREEN LED group. These outputs are controlled with the GSCKG clock signal. The GREEN LED group is divided into four subgroups: OUTG0/OUTG4, OUTG1/OUTG5, OUTG2/OUTG6, and OUTG3/OUTG7. Each (See Datasheet)", 8 OUTR0 (out) "Constant-current outputs for the RED LED group. These outputs are controlled with the GSCKR clock signal. The RED LED group is divided into four subgroups: OUTR0/OUTR4, OUTR1/OUTR5, OUTR2/OUTR6, and OUTR3/OUTR7. Each paired (See Datasheet)", 9 OUTB0 (out) "Constant current outputs for the BLUE LED group. These outputs are controlled with the GSCKB clock signal. The BLUE LED group is divided into four subgroups: OUTB0/OUTB4, OUTB1/OUTB5, OUTB2/OUTB6, and OUTB3/OUTB7. Each (See Datasheet)", 10 OUTG1 (out) "Constant-current outputs for the GREEN LED group. These outputs are controlled with the GSCKG clock signal. The GREEN LED group is divided into four subgroups: OUTG0/OUTG4, OUTG1/OUTG5, OUTG2/OUTG6, and OUTG3/OUTG7. Each (See Datasheet)", 11 OUTR1 (out) "Constant-current outputs for the RED LED group. These outputs are controlled with the GSCKR clock signal. The RED LED group is divided into four subgroups: OUTR0/OUTR4, OUTR1/OUTR5, OUTR2/OUTR6, and OUTR3/OUTR7. Each paired (See Datasheet)", 12 OUTB1 (out) "Constant current outputs for the BLUE LED group. These outputs are controlled with the GSCKB clock signal. The BLUE LED group is divided into four subgroups: OUTB0/OUTB4, OUTB1/OUTB5, OUTB2/OUTB6, and OUTB3/OUTB7. Each (See Datasheet)", 13 OUTG2 (out) "Constant-current outputs for the GREEN LED group. These outputs are controlled with the GSCKG clock signal. The GREEN LED group is divided into four subgroups: OUTG0/OUTG4, OUTG1/OUTG5, OUTG2/OUTG6, and OUTG3/OUTG7. Each (See Datasheet)", 14 OUTR2 (out) "Constant-current outputs for the RED LED group. These outputs are controlled with the GSCKR clock signal. The RED LED group is divided into four subgroups: OUTR0/OUTR4, OUTR1/OUTR5, OUTR2/OUTR6, and OUTR3/OUTR7. Each paired (See Datasheet)", 15 OUTB2 (out) "Constant current outputs for the BLUE LED group. These outputs are controlled with the GSCKB clock signal. The BLUE LED group is divided into four subgroups: OUTB0/OUTB4, OUTB1/OUTB5, OUTB2/OUTB6, and OUTB3/OUTB7. Each (See Datasheet)", 16 OUTG3 (out) "Constant-current outputs for the GREEN LED group. These outputs are controlled with the GSCKG clock signal. The GREEN LED group is divided into four subgroups: OUTG0/OUTG4, OUTG1/OUTG5, OUTG2/OUTG6, and OUTG3/OUTG7. Each (See Datasheet)", 17 OUTR3 (out) "Constant-current outputs for the RED LED group. These outputs are controlled with the GSCKR clock signal. The RED LED group is divided into four subgroups: OUTR0/OUTR4, OUTR1/OUTR5, OUTR2/OUTR6, and OUTR3/OUTR7. Each paired (See Datasheet)", 18 OUTB3 (out) "Constant current outputs for the BLUE LED group. These outputs are controlled with the GSCKB clock signal. The BLUE LED group is divided into four subgroups: OUTB0/OUTB4, OUTB1/OUTB5, OUTB2/OUTB6, and OUTB3/OUTB7. Each (See Datasheet)", 19 GSSOUT (out) "Serial data output of the 288-bit common shift register. LED open detection (LOD), LED short detection (LSD), thermal error flag (TEF), and 199-bit data in the DC/BC/FC data latch can be read via GSSOUT. GSSOUT is connected (See Datasheet)", 20 DCSOUT (out) "Serial data output of the 216-bit shift register. DCSOUT is connected to the MSB of the shift register. Data are clocked out at the rising edge of DCSCK.", 21 OUTB4 (out) "Constant current outputs for the BLUE LED group. These outputs are controlled with the GSCKB clock signal. The BLUE LED group is divided into four subgroups: OUTB0/OUTB4, OUTB1/OUTB5, OUTB2/OUTB6, and OUTB3/OUTB7. Each (See Datasheet)", 22 OUTR4 (out) "Constant-current outputs for the RED LED group. These outputs are controlled with the GSCKR clock signal. The RED LED group is divided into four subgroups: OUTR0/OUTR4, OUTR1/OUTR5, OUTR2/OUTR6, and OUTR3/OUTR7. Each paired (See Datasheet)", 23 OUTG4 (out) "Constant-current outputs for the GREEN LED group. These outputs are controlled with the GSCKG clock signal. The GREEN LED group is divided into four subgroups: OUTG0/OUTG4, OUTG1/OUTG5, OUTG2/OUTG6, and OUTG3/OUTG7. Each (See Datasheet)", 24 OUTB5 (out) "Constant current outputs for the BLUE LED group. These outputs are controlled with the GSCKB clock signal. The BLUE LED group is divided into four subgroups: OUTB0/OUTB4, OUTB1/OUTB5, OUTB2/OUTB6, and OUTB3/OUTB7. Each (See Datasheet)", 25 OUTR5 (out) "Constant-current outputs for the RED LED group. These outputs are controlled with the GSCKR clock signal. The RED LED group is divided into four subgroups: OUTR0/OUTR4, OUTR1/OUTR5, OUTR2/OUTR6, and OUTR3/OUTR7. Each paired (See Datasheet)", 26 OUTG5 (out) "Constant-current outputs for the GREEN LED group. These outputs are controlled with the GSCKG clock signal. The GREEN LED group is divided into four subgroups: OUTG0/OUTG4, OUTG1/OUTG5, OUTG2/OUTG6, and OUTG3/OUTG7. Each (See Datasheet)", 27 OUTB6 (out) "Constant current outputs for the BLUE LED group. These outputs are controlled with the GSCKB clock signal. The BLUE LED group is divided into four subgroups: OUTB0/OUTB4, OUTB1/OUTB5, OUTB2/OUTB6, and OUTB3/OUTB7. Each (See Datasheet)", 28 OUTR6 (out) "Constant-current outputs for the RED LED group. These outputs are controlled with the GSCKR clock signal. The RED LED group is divided into four subgroups: OUTR0/OUTR4, OUTR1/OUTR5, OUTR2/OUTR6, and OUTR3/OUTR7. Each paired (See Datasheet)", 29 OUTG6 (out) "Constant-current outputs for the GREEN LED group. These outputs are controlled with the GSCKG clock signal. The GREEN LED group is divided into four subgroups: OUTG0/OUTG4, OUTG1/OUTG5, OUTG2/OUTG6, and OUTG3/OUTG7. Each (See Datasheet)", 30 OUTB7 (out) "Constant current outputs for the BLUE LED group. These outputs are controlled with the GSCKB clock signal. The BLUE LED group is divided into four subgroups: OUTB0/OUTB4, OUTB1/OUTB5, OUTB2/OUTB6, and OUTB3/OUTB7. Each (See Datasheet)", 31 OUTR7 (out) "Constant-current outputs for the RED LED group. These outputs are controlled with the GSCKR clock signal. The RED LED group is divided into four subgroups: OUTR0/OUTR4, OUTR1/OUTR5, OUTR2/OUTR6, and OUTR3/OUTR7. Each paired (See Datasheet)", 32 OUTG7 (out) "Constant-current outputs for the GREEN LED group. These outputs are controlled with the GSCKG clock signal. The GREEN LED group is divided into four subgroups: OUTG0/OUTG4, OUTG1/OUTG5, OUTG2/OUTG6, and OUTG3/OUTG7. Each (See Datasheet)", 33 GND (power) "Power ground", 34 IREF (in) "A resistor connected between IREF and GND sets the maximum current for all constant current outputs.", 35 VCC (power) "Power supply", 36 XBLNK (in) "When XBLNK is low, all constant-current outputs (OUTR0-OUTR7, OUTG0-OUTG7, OUTB0-OUTB7) are forced off. The grayscale counters for each color group are reset to '0', and the grayscale PWM timing controller is initialized. (See Datasheet)", 37 DCSCK (in) "Serial data shift clock for the 216-bit DC/BC/FC/UD shift register. Data present on DCSIN are shifted into the LSB of the shift register with the DCSCK rising edge. Data in the shift register are shifted toward the MSB at (See Datasheet)", 38 DCSIN (in) "Serial data input for the 216-bit DC/BC/FC/UD shift register. DCSIN is connected to the LSB of the shift register.", 39 EP "Exposed Thermal Pad"